# Altium schematic symbol library PRIM_fact.SchLib: 41 symbols
Pins are listed as number, name and electrical type; pins without a type are passive.

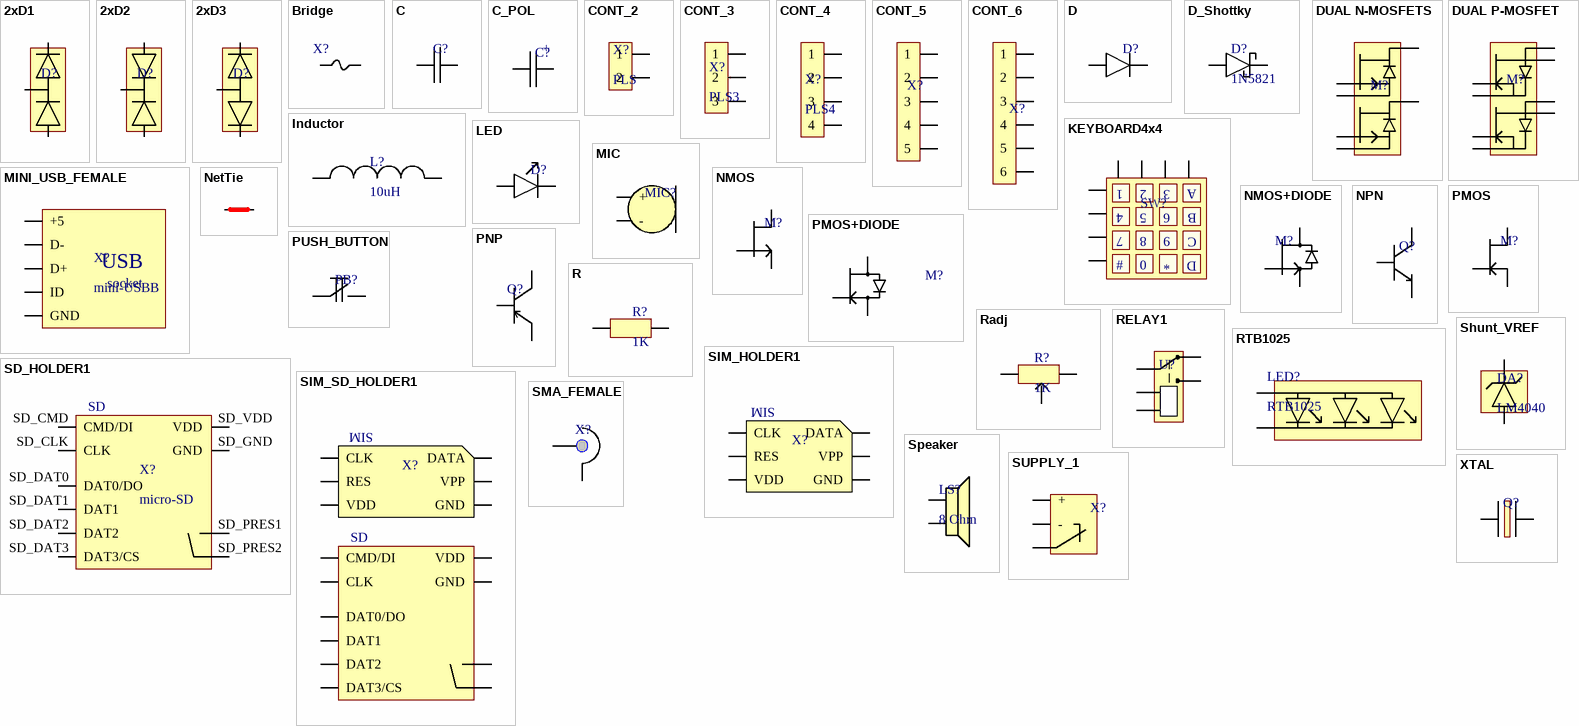
[diagram p0: symbols 2xD1 to XTAL]

## 2xD1
designator D?  (value not drawn)
footprint SOT-23
pins: 1 A1, 2 K2, 3 AK

## 2xD2
designator D?  (value not drawn)
footprint SOT-23
pins: 1 A1, 2 K2, 3 AK

## 2xD3
designator D?  (value not drawn)
footprint SOT-23
pins: 1 A1, 2 K2, 3 AK

## Bridge
designator X?  (value not drawn)
footprint BRIDGE_1
footprint BRIDGE_2
pins: 1, 2

## C
designator C?
footprint 0805
footprint 1206_0805
pins: 1, 2

## C_POL
designator C?
footprint CTANT_SMD_C
footprint CALUM_SMD_B
footprint CALUM_SMD_C
footprint CALUM_THT_E5D13 (Space between pins is 5mm)
pins: 1, 2
text: +

## CONT_2
designator X?, comment PLS
footprint PLS_2
footprint PLS_2_BIG
pins: 1, 2

## CONT_3
designator X?, comment PLS3
footprint PLS_3
footprint TERMINALS_7.7x15.5(step 5mm)
footprint PLS_3_BIG
pins: 1, 2, 3

## CONT_4
designator X?, comment PLS4
footprint PLS_4
footprint PLS_4Q
footprint PLS_4_BIG
pins: 1, 2, 3, 4

## CONT_5
designator X?  (value not drawn)
footprint PLS_5
footprint PLS_5_BIG
pins: 1, 2, 3, 4, 5

## CONT_6
designator X?, comment PLS6  (value not drawn)
footprint PLS_6
footprint PLS_6_BIG
pins: 1, 2, 3, 4, 5, 6

## D
designator D?
footprint DO-214AC
footprint DO-201AD
footprint DO-35
pins: 1, 2

## D_Shottky
designator D?, comment 1N5821
footprint DO-35
footprint DO-201AD
pins: 1, 2

## DUAL N-MOSFETS
designator M?  (value not drawn)
pins: 1, 2, 3, 4, 6, 8

## DUAL P-MOSFET
designator M?  (value not drawn)
footprint MICRO8
footprint SOP8
pins: 1, 2, 3, 4, 5, 6, 7, 8

## Inductor
designator L?, comment 10uH
footprint INDUCTOR_5mm (Pin space is 5mm)
footprint INDUCTOR_CDRH2D18
pins: 1, 2

## KEYBOARD4x4
designator SW?  (value not drawn)
footprint KEYBOURD_4x4_1 (Membrane (from ebay))
pins: C1, C2, C3, C4, R1, R2, R3, R4
text: 1; 2; 3; A; 4; 5; 6; B; 7; 8; 9; C; #; 0; D

## LED
designator D?  (value not drawn)
footprint LED1_THT_E2.54D3 (Diameter - 3mm, step - 2.54mm)
footprint LED_SMD_0805
pins: 1, 2

## MIC
designator MIC?  (value not drawn)
footprint MIC_6.0x5.2
pins: +, -

## MINI_USB_FEMALE
designator X?, comment mini-USBB
footprint MINI_USBA_FEMALE
pins: +5, D+, D-, GND, ID
text: USB; socket

## NetTie
designator N?  (value not drawn)  (net tie, no BOM)
footprint NET_TIE_1mm
footprint NET_TIE_2mm
footprint NET_TIE_3mm
pins: 1, 2

## NMOS
designator M?
footprint SOT-23
footprint TO-252(DPAK)
pins: 1, 2, 3

## NMOS+DIODE
designator M?
footprint SOT-23
footprint TO-252(DPAK)
pins: 1, 2, 3

## NPN
designator Q?
footprint SOT-23
pins: 1 B, 2 E, 3 C

## PMOS
designator M?
footprint SOT-23
pins: 1, 2, 3

## PMOS+DIODE
designator M?
footprint SOT-23
footprint TO-252(DPAK)
pins: 1, 2, 3

## PNP
designator Q?  (value not drawn)
footprint SOT-23
pins: 1 B, 2 E, 3 C

## PUSH_BUTTON
designator PB?
footprint BUTTON_1
footprint BUTTON_2
pins: 1, 2

## R
designator R?, comment 1K
footprint 0805
footprint RES_1W
footprint RES_0.125W
footprint 1206
footprint RES_2W
pins: 1, 2

## Radj
designator R?, comment 1K
footprint 3305SMD(adj res)
footprint 3296 X W(ADJ RES)
pins: 1, 2, 3

## RELAY1
designator U?  (value not drawn)
pins: 1, 2, 3, 4, 5

## RTB1025
designator LED?
footprint RTB1025_1
footprint RTB1025_2
pins: 1, 2

## SD_HOLDER1
designator X?, comment micro-SD
footprint SD_HOLDER1
pins: SD_CLK CLK, SD_CMD CMD/DI, SD_DAT0 DAT0/DO, SD_DAT1 DAT1, SD_DAT2 DAT2, SD_DAT3 DAT3/CS, SD_GND GND, SD_PRES1, SD_PRES2, SD_VDD VDD
text: SD

## Shunt_VREF
designator DA?, comment LM4040
footprint SOT-23
pins: 1 K, 2 A

## SIM_HOLDER1
designator X?  (value not drawn)
footprint SIM_HOLDER1
pins: SIM_CLK CLK, SIM_DATA DATA, SIM_GND GND, SIM_RES RES, SIM_VDD VDD, SIM_VPP VPP
text: SIM

## SIM_SD_HOLDER1
designator X?
footprint SIM_SD_HOLDER1
pins: SD_CLK CLK, SD_CMD CMD/DI, SD_DAT0 DAT0/DO, SD_DAT1 DAT1, SD_DAT2 DAT2, SD_DAT3 DAT3/CS, SD_GND GND, SD_PRES1, SD_PRES2, SD_VDD VDD, SIM_CLK CLK, SIM_DATA DATA, SIM_GND GND, SIM_RES RES, SIM_VDD VDD, SIM_VPP VPP
text: SIM; SD

## SMA_FEMALE
designator X?  (value not drawn)
footprint SMA_FEMALE
pins: 1, 2

## Speaker
designator LS?, comment 8 Ohm
pins: 1, 2

## SUPPLY_1
designator X?  (value not drawn)
footprint SUP_SOCK_D5.5D1.8 (Socket for supply)
pins: +, -, PRES

## XTAL
designator Q?  (value not drawn)
footprint OSC1_SMD_11.5x4.8
footprint OSC1_THT_10,8x4,5
footprint OSC2_SMD_0,6X0,2B
footprint QSMD12.3x4.5x4.2
pins: 1, 2

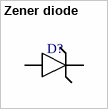
[diagram p1: symbol Zener diode]

## Zener diode
designator D?
footprint DO-35
footprint SOD80
pins: 1 A, 2 K